# Altium footprint library 智能车主板.PcbLib: 35 footprints (part 1 of 3)
Each footprint in its own frame and in the unit in brackets; x right, y up, seen from the top. Pads: shape width x height; smd on the part's side, far side on the other; paste and mask are expansions set on the pad; w line width, h text height; cw(c..) or ccw(c..) is an arc to the next point about the centre after c.
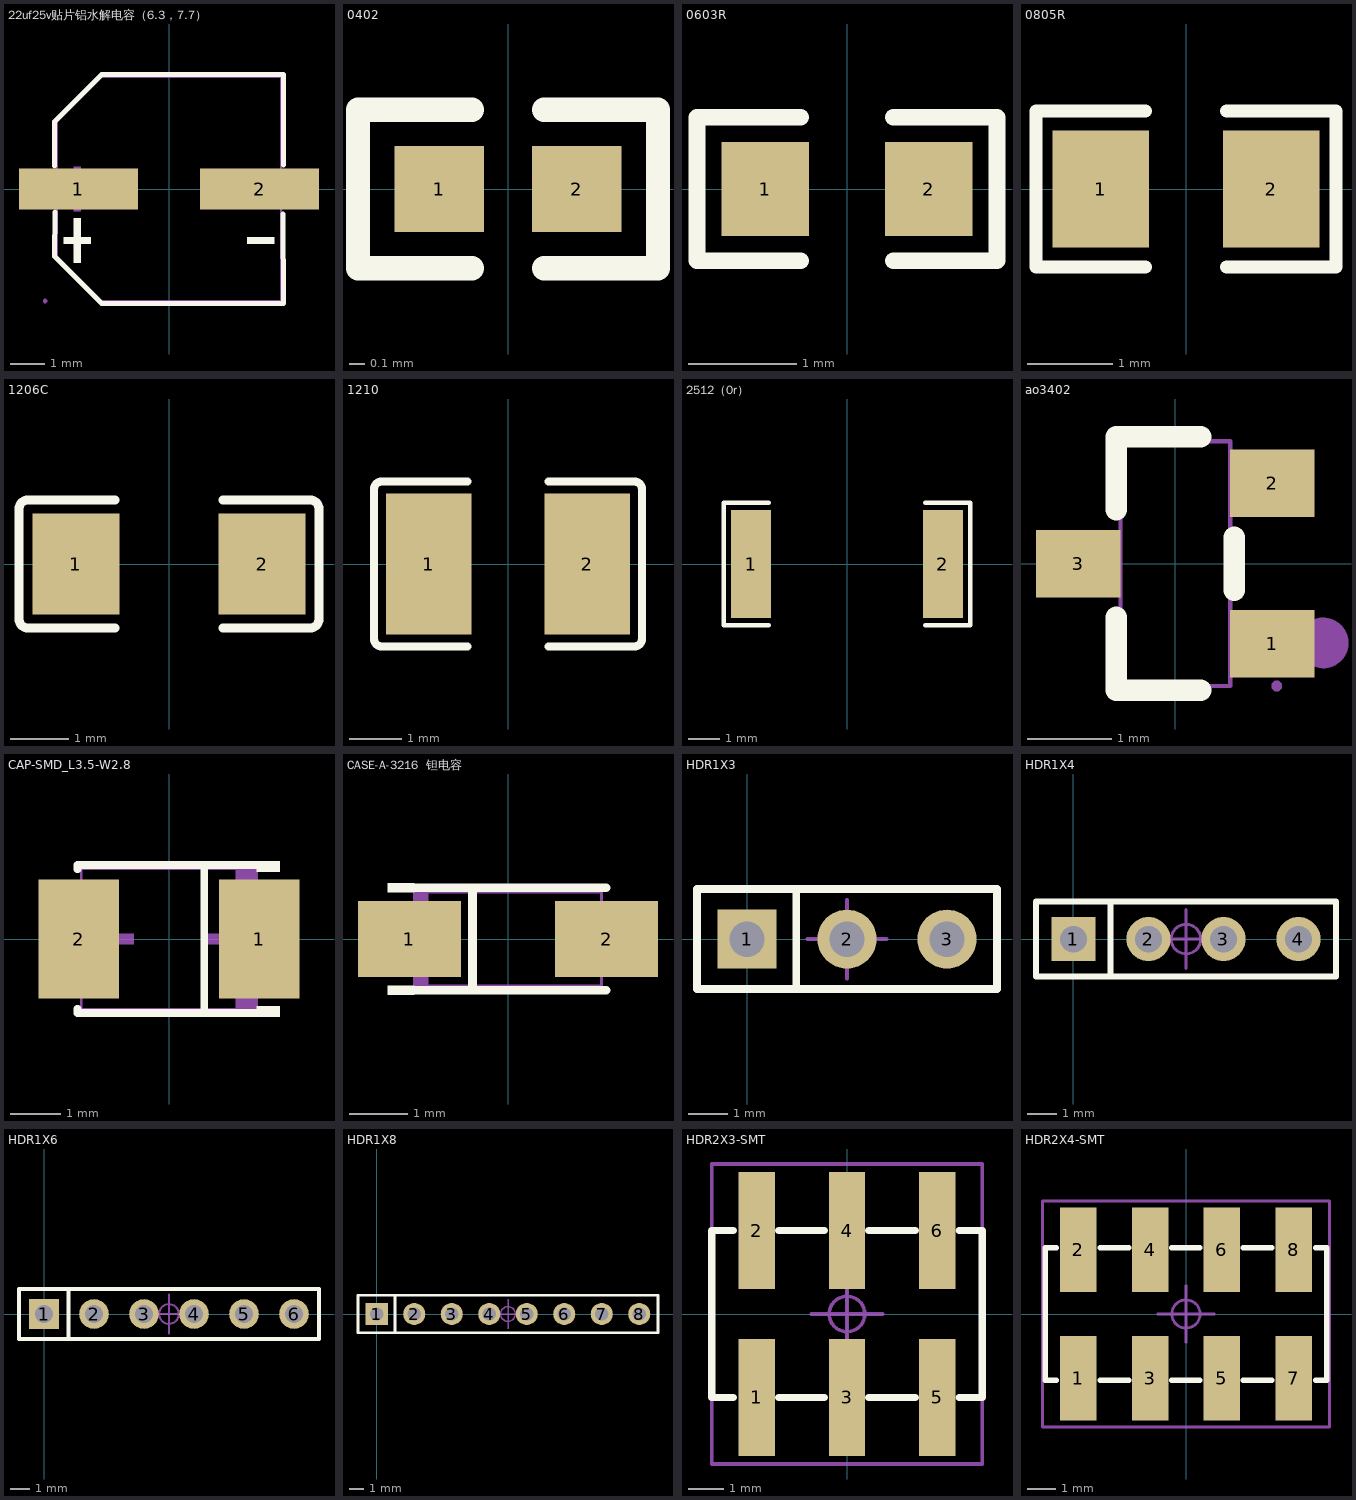
[diagram p0: the footprints below, top view; thin cyan lines are the x and y axes]

## 22uf25v贴片铝水解电容（6.3，7.7） [mm]
pads (2):
  rect 3.5x1.2 smd mask+0.051: 1(-2.67,0) 2(2.67,0)
Top Overlay:
  region: 3.102,-1.419 3.102,-1.617 2.31,-1.617 2.31,-1.419
  region: -3.102,-1.419 -3.102,-1.617 -2.31,-1.617 -2.31,-1.419
  region: -2.805,-0.858 -2.805,-2.178 -2.607,-2.178 -2.607,-0.858
  lines w0.152: -3.376,0.686 -3.376,1.98 -1.98,3.376 3.376,3.376 3.369,0.708 ; -3.362,-0.686 -3.376,-1.981 -1.981,-3.376 3.376,-3.376 3.356,-0.739
Mechanical 6:
  region: 3.102,0.099 3.102,-0.099 2.31,-0.099 2.31,0.099
  region: -3.102,0.099 -3.102,-0.099 -2.31,-0.099 -2.31,0.099
  region: -2.805,0.66 -2.805,-0.66 -2.607,-0.66 -2.607,0.66
Mechanical 15:
  region: -3.652,0.35 -1.002,0.35 -1.002,-0.35 -3.652,-0.35
  region: 0.999,0.35 3.649,0.35 3.649,-0.35 0.999,-0.35
  region: -3.592,-3.3 -3.592,-3.275 -3.627,-3.24 -3.676,-3.24 -3.712,-3.275 -3.712,-3.3 -3.712,-3.325 -3.676,-3.36 -3.627,-3.36 -3.592,-3.325 -3.592,-3.3
  lines w0.051: -3.3,-1.98 -3.3,1.98 -1.98,3.3 3.3,3.3 3.3,-3.3 -1.98,-3.3 -3.3,-1.98

## 0402 [mm]
pads (2):
  rect 0.566x0.54 smd mask+0.051: 1(-0.433,0) 2(0.433,0)
Top Overlay:
  lines w0.152: -0.226,-0.499 -0.944,-0.499 -0.944,0.499 -0.226,0.499 ; 0.226,-0.499 0.944,-0.499 0.944,0.499 0.226,0.499
Top Paste:
  region: 0.135,-0.23 0.135,0.23 0.175,0.27 0.676,0.27 0.716,0.23 0.716,-0.23 0.676,-0.27 0.175,-0.27
  region: -0.135,-0.23 -0.135,0.23 -0.175,0.27 -0.676,0.27 -0.716,0.23 -0.716,-0.23 -0.676,-0.27 -0.175,-0.27

## 0603R [mm]
pads (2):
  rect 0.806x0.864 smd mask+0.051: 1(-0.753,0) 2(0.753,0)
Top Overlay:
  lines w0.152: -0.426,-0.661 -1.385,-0.661 -1.385,0.661 -0.426,0.661 ; 0.426,-0.661 1.385,-0.661 1.385,0.661 0.426,0.661

## 0805R [mm]
pads (2):
  rect 1.133x1.377 smd mask+0.051: 1(-1,0) 2(1,0)
Top Overlay:
  lines w0.152: -0.476,-0.917 -1.761,-0.917 -1.761,0.917 -0.476,0.917 ; 0.476,-0.917 1.761,-0.917 1.761,0.917 0.476,0.917
Top Paste:
  region: -1.7,-0.64 -1.7,0.64 -1.65,0.69 -0.5,0.69 -0.45,0.64 -0.445,0.23 -0.895,0.23 -0.895,-0.22 -0.455,-0.22 -0.45,-0.64 -0.5,-0.69 -1.65,-0.69
  region: 0.45,-0.64 0.45,-0.22 0.895,-0.22 0.895,0.23 0.455,0.23 0.45,0.64 0.5,0.69 1.65,0.69 1.7,0.64 1.7,-0.64 1.65,-0.69 0.5,-0.69

## 1206C [mm]
pads (2):
  rect 1.485x1.728 smd mask+0.051: 1(-1.593,0) 2(1.593,0)
Top Overlay:
  lines w0.152: -0.926,-1.093 -2.411,-1.093 cw(c-2.411,-0.94) -2.564,-0.94 -2.564,0.94 cw(c-2.411,0.94) -2.411,1.093 -0.926,1.093 ; 0.926,-1.093 2.411,-1.093 ccw(c2.411,-0.94) 2.564,-0.94 2.564,0.94 ccw(c2.411,0.94) 2.411,1.093 0.926,1.093
Top Paste:
  region: 0.85,-0.764 0.85,-0.394 0.95,-0.294 1.255,-0.294 1.355,-0.194 1.355,0.194 1.255,0.294 0.95,0.294 0.85,0.394 0.85,0.764 0.95,0.864 2.235,0.864 2.335,0.764 2.335,-0.764 2.235,-0.864 0.95,-0.864
  region: -0.85,-0.764 -0.85,-0.394 -0.95,-0.294 -1.255,-0.294 -1.355,-0.194 -1.355,0.194 -1.255,0.294 -0.95,0.294 -0.85,0.394 -0.85,0.764 -0.95,0.864 -2.235,0.864 -2.335,0.764 -2.335,-0.764 -2.235,-0.864 -0.95,-0.864

## 1210 [mm]
pads (2):
  rect 1.635x2.7 smd mask+0.051: 1(-1.517,0) 2(1.517,0)
Top Overlay:
  lines w0.152: -0.776,-1.579 -2.411,-1.579 cw(c-2.411,-1.426) -2.564,-1.426 -2.564,1.426 cw(c-2.411,1.426) -2.411,1.579 -0.776,1.579 ; 0.776,-1.579 2.411,-1.579 ccw(c2.411,-1.426) 2.564,-1.426 2.564,1.426 ccw(c2.411,1.426) 2.411,1.579 0.776,1.579
Top Paste:
  region: -0.7,-1.25 -0.7,-0.559 -0.8,-0.459 -1.156,-0.459 -1.256,-0.359 -1.256,0.359 -1.156,0.459 -0.8,0.459 -0.7,0.559 -0.7,1.25 -0.8,1.35 -2.235,1.35 -2.335,1.25 -2.335,-1.25 -2.235,-1.35 -0.8,-1.35
  region: 0.7,-1.25 0.7,-0.559 0.8,-0.459 1.156,-0.459 1.256,-0.359 1.256,0.359 1.156,0.459 0.8,0.459 0.7,0.559 0.7,1.25 0.8,1.35 2.235,1.35 2.335,1.25 2.335,-1.25 2.235,-1.35 0.8,-1.35

## 2512（0r） [mm]
pads (2):
  rect 1.283x3.456 smd mask+0.051: 1(-3.066,0) 2(3.066,0)
Top Overlay:
  lines w0.152: -2.501,-1.957 -3.936,-1.957 -3.936,1.957 -2.501,1.957 ; 2.501,-1.957 3.936,-1.957 3.936,1.957 2.501,1.957
Top Paste:
  region: -2.425,-1.628 -2.425,-0.688 -2.525,-0.588 -2.761,-0.588 -2.861,-0.488 -2.861,0.488 -2.761,0.588 -2.525,0.588 -2.425,0.688 -2.425,1.628 -2.525,1.728 -3.608,1.728 -3.708,1.628 -3.708,-1.628 -3.608,-1.728 -2.525,-1.728
  region: 2.425,-1.628 2.425,-0.688 2.525,-0.588 2.761,-0.588 2.861,-0.488 2.861,0.488 2.761,0.588 2.525,0.588 2.425,0.688 2.425,1.628 2.525,1.728 3.608,1.728 3.708,1.628 3.708,-1.628 3.608,-1.728 2.525,-1.728

## ao3402 [mm]
pads (3):
  rect 1x0.8 smd paste+0 mask+0.051: 1(1.15,-0.95) 2(1.15,0.95) 3(-1.15,0)
Top Overlay:
  lines w0.254: -0.7,-0.636 -0.7,-1.5 0.3,-1.5 ; -0.7,0.636 -0.7,1.5 0.3,1.5 ; 0.7,-0.314 0.7,0.314
Mechanical 6:
  circle w0.3: c1.753,-0.94 r0.15
Mechanical 15:
  region: 1.26,-1.45 1.26,-1.425 1.225,-1.39 1.175,-1.39 1.14,-1.425 1.14,-1.45 1.14,-1.475 1.175,-1.51 1.225,-1.51 1.26,-1.475 1.26,-1.45
  region: 0.64,-1.15 0.64,-0.75 0.81,-0.75 0.81,-1.15
  region: 0.8,-1.15 0.8,-0.75 1.2,-0.75 1.2,-1.15
  region: 0.64,0.75 0.64,1.15 0.81,1.15 0.81,0.75
  region: 0.8,0.75 0.8,1.15 1.2,1.15 1.2,0.75
  region: -0.81,-0.2 -0.81,0.2 -0.64,0.2 -0.64,-0.2
  region: -1.2,-0.2 -1.2,0.2 -0.8,0.2 -0.8,-0.2
  lines w0.051: -0.65,-1.45 -0.65,1.45 0.65,1.45 0.65,-1.45 -0.65,-1.45

## CAP-SMD_L3.5-W2.8 [mm]
pads (2):
  rect 1.607x2.376 smd mask+0.051: 1(1.804,0) 2(-1.804,0)
Top Overlay:
  region: 1.75,-1.552 1.75,-1.34 2.207,-1.34 2.207,-1.552
  region: 1.75,1.552 1.75,1.34 2.207,1.34 2.207,1.552
  lines w0.152: -1.826,-1.391 -1.826,-1.476 1.826,-1.476 ; -1.826,1.391 -1.826,1.476 1.826,1.476 ; 0.704,-1.476 0.704,1.476
Mechanical 6:
  region: 1.75,1.4 1.75,0.7 1.33,0.7 1.33,1.4
  region: 1.75,-1.4 1.75,-0.7 1.33,-0.7 1.33,-1.4
  region: 1.225,-0.7 1.225,0.7 1.015,0.7 1.015,-0.7
  region: 1.54,-0.105 1.54,0.105 0.7,0.105 0.7,-0.105
  region: -1.54,-0.105 -1.54,0.105 -0.7,0.105 -0.7,-0.105
Mechanical 15:
  region: 1.81,1.4 1.81,1.425 1.775,1.46 1.725,1.46 1.69,1.425 1.69,1.4 1.69,1.375 1.725,1.34 1.775,1.34 1.81,1.375 1.81,1.4
  region: 1.75,-1.1 1.75,1.1 1,1.1 1,-1.1
  region: -1.75,-1.1 -1.75,1.1 -1,1.1 -1,-1.1
  lines w0.051: -1.75,-1.4 -1.75,1.4 1.75,1.4 1.75,-1.4 -1.75,-1.4

## CASE-A-3216  钽电容 [mm]
pads (2):
  rect 1.758x1.296 smd mask+0.051: 1(-1.686,0) 2(1.686,0)
Top Overlay:
  region: -1.6,0.952 -1.6,0.8 -2.057,0.8 -2.057,0.952
  region: -1.6,-0.952 -1.6,-0.8 -2.057,-0.8 -2.057,-0.952
  lines w0.152: -1.676,-0.876 1.676,-0.876 ; -1.676,0.876 1.676,0.876 ; -0.604,-0.876 -0.604,0.876
Mechanical 6:
  region: -1.6,-0.8 -1.6,-0.4 -1.36,-0.4 -1.36,-0.8
  region: -1.6,0.8 -1.6,0.4 -1.36,0.4 -1.36,0.8
  region: -1.3,0.4 -1.3,-0.4 -1.18,-0.4 -1.18,0.4
  region: -1.48,0.06 -1.48,-0.06 -1,-0.06 -1,0.06
  region: 1.48,0.06 1.48,-0.06 1,-0.06 1,0.06
Mechanical 15:
  region: -1.83,0.6 -1.83,-0.6 -0.98,-0.6 -0.98,0.6
  region: 1.83,0.6 1.83,-0.6 0.98,-0.6 0.98,0.6
  region: -1.591,-0.889 -1.591,-0.864 -1.626,-0.829 -1.676,-0.829 -1.711,-0.864 -1.711,-0.889 -1.711,-0.914 -1.676,-0.949 -1.626,-0.949 -1.591,-0.914 -1.591,-0.889
  lines w0.051: -1.6,-0.8 -1.6,0.8 1.6,0.8 1.6,-0.8 -1.6,-0.8

## HDR1X3 [mm]
pads (3):
  rect 1.5x1.5 hole 0.9: 1(0,0)
  round 1.5 hole 0.9: 2(2.54,0) 3(5.08,0)
Top Overlay:
  lines w0.2: 1.25,-1.25 1.25,1.25 ; -1.27,-1.27 -1.27,1.27 6.35,1.27 6.35,-1.27 -1.27,-1.27
Top Component Outline:
  lines w0.1: -1.27,-1.27 -1.27,1.275 6.35,1.275 6.35,-1.27 -1.27,-1.27
Top Designator:
  text ".Designator" at 0.288,-0.226 h1
Top Component Center:
  circle w0.1: c2.54,0 r0.5
  lines w0.1: 1.54,0 3.54,0 ; 2.54,-1 2.54,1
3D body "1001-3.STEP": height 8.54, standoff -3, extent -1.27,-1.27 6.35,1.27

## HDR1X4 [mm]
pads (4):
  rect 1.5x1.5 hole 0.9: 1(0,0)
  round 1.5 hole 0.9: 2(2.54,0) 3(5.08,0) 4(7.62,0)
Top Overlay:
  lines w0.2: 1.25,-1.25 1.25,1.25 ; -1.27,-1.27 -1.27,1.27 8.89,1.27 8.89,-1.27 -1.27,-1.27
Top Component Outline:
  lines w0.1: -1.27,-1.27 8.89,-1.27 8.89,1.275 -1.27,1.275 -1.27,-1.27
Top Designator:
  text ".Designator" at 6.062,0.226 h1
Top Component Center:
  circle w0.1: c3.81,0 r0.5
  lines w0.1: 2.81,0 4.81,0 ; 3.81,-1 3.81,1
3D body "1001-4.STEP": height 8.54, standoff -3, extent -1.27,-1.27 8.89,1.27

## HDR1X6 [mm]
pads (6):
  rect 1.5x1.5 hole 0.9: 1(0,0)
  round 1.5 hole 0.9: 2(2.54,0) 3(5.08,0) 4(7.62,0) 5(10.16,0) 6(12.7,0)
Top Overlay:
  lines w0.2: 1.25,-1.25 1.25,1.25 ; -1.27,-1.27 -1.27,1.27 13.97,1.27 13.97,-1.27 -1.27,-1.27
Top Component Outline:
  lines w0.1: -1.27,-1.27 -1.27,1.27 13.97,1.27 13.97,-1.27 -1.27,-1.27
Top Designator:
  text ".Designator" at 4.098,-0.226 h1
Top Component Center:
  circle w0.1: c6.35,0 r0.5
  lines w0.1: 5.35,0 7.35,0 ; 6.35,-1 6.35,1
3D body "1001-6.STEP": height 8.54, standoff -3, extent -1.27,-1.27 13.97,1.27

## HDR1X8 [mm]
pads (8):
  rect 1.5x1.5 hole 0.9: 1(0,0)
  round 1.5 hole 0.9: 2(2.54,0) 3(5.08,0) 4(7.62,0) 5(10.16,0) 6(12.7,0) 7(15.24,0) 8(17.78,0)
Top Overlay:
  lines w0.2: 1.25,-1.25 1.25,1.25 ; -1.27,-1.27 19.05,-1.27 19.05,1.27 -1.27,1.27 -1.27,-1.27
Top Component Outline:
  lines w0.1: -1.27,-1.27 19.05,-1.27 19.05,1.27 -1.27,1.27 -1.27,-1.27
Top Designator:
  text ".Designator" at 6.638,-0.226 h1
Top Component Center:
  circle w0.1: c8.89,0 r0.5
  lines w0.1: 7.89,0 9.89,0 ; 8.89,-1 8.89,1
3D body "1001-8.STEP": height 8.54, standoff -3, extent -1.27,-1.27 19.05,1.27

## HDR2X3-SMT [mm]
pads (6):
  rect 1.02x3.3 smd: 1(-2.54,-2.35) 2(-2.54,2.35) 3(0,-2.35) 4(0,2.35) 5(2.54,-2.35) 6(2.54,2.35)
Top Overlay:
  lines w0.2: -3.2,-2.35 -3.81,-2.35 -3.81,2.35 -3.2,2.35 ; -1.93,-2.35 -0.635,-2.35 ; -1.93,2.35 -0.635,2.35 ; 0.61,-2.35 1.93,-2.35 ; 0.61,2.35 1.93,2.35 ; 3.15,-2.35 3.81,-2.35 3.81,2.35 3.15,2.35
Top Component Outline:
  lines w0.1: -3.81,-4.225 3.81,-4.225 3.81,4.225 -3.81,4.225 -3.81,-4.225
Top Designator:
  text ".Designator" at -2.252,-0.226 h1
Top Component Center:
  circle w0.1: c0,0 r0.5
  lines w0.1: -1,0 1,0 ; 0,-1 0,1
3D body "61000621121.stp": height 9.67, standoff 0.07, extent -3.81,-3.75 3.81,3.75

## HDR2X4-SMT [mm]
pads (8):
  rect 1.3x3 smd: 1(-3.81,-2.27) 2(-3.81,2.27) 3(-1.27,-2.27) 4(-1.27,2.27) 5(1.27,-2.27) 6(1.27,2.27) 7(3.81,-2.27) 8(3.81,2.27)
Top Overlay:
  lines w0.2: -4.597,-2.35 -4.978,-2.35 -4.978,2.35 -4.597,2.35 ; -3.03,-2.35 -2.03,-2.35 ; -3.03,2.35 -2.03,2.35 ; -0.51,-2.35 0.49,-2.35 ; -0.51,2.35 0.49,2.35 ; 2.03,-2.35 3.03,-2.35 ; 2.03,2.35 3.03,2.35 ; 4.597,-2.35 4.978,-2.35 4.978,2.35 4.597,2.35
Top Component Outline:
  lines w0.1: -5.08,-4 -5.08,4 5.08,4 5.08,-4 3.825,-4 -5.08,-4
Top Designator:
  text ".Designator" at -2.252,-0.351 h1
Top Component Center:
  circle w0.1: c0,0 r0.5
  lines w0.1: -1,0 1,0 ; 0,-1 0,1
3D body "61000821821-无盖.STEP": height 7.47, standoff -0.03, extent -5.08,-3.35 5.08,3.35